# EAGLE library part BMI160 (library IMU)
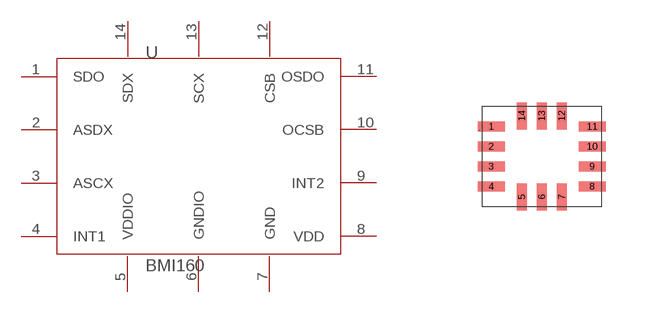
[diagram p0: symbol with the pads of IMU; footprint IMU]

Designator prefix -

## BMI160  [IMU]
1  SDO
2  ASDX
3  ASCX  out
4  INT1
5  VDDIO  sup
6  GNDIO  pwr
7  GND  pwr
8  VDD  sup
9  INT2
10  OCSB
11  OSDO
12  CSB  in
13  SCX  in
14  SDX

## Footprint IMU (pad centres in mm)
smd 0.675 x 0.25: 1 -1.262,0.75; 2 -1.262,0.25; 3 -1.262,-0.25; 4 -1.262,-0.75; 8 1.262,-0.75; 9 1.262,-0.25; 10 1.262,0.25; 11 1.262,0.75
smd 0.25 x 0.675: 5 -0.5,-1.012; 6 0,-1.012; 7 0.5,-1.012; 12 0.5,1.012; 13 0,1.012; 14 -0.5,1.012